# Altium footprint library TPS54360.PcbLib: 1 footprints
Each footprint in its own frame and in the unit in brackets; x right, y up, seen from the top. Pads: shape width x height; smd on the part's side, far side on the other; paste and mask are expansions set on the pad; w line width, h text height; cw(c..) or ccw(c..) is an arc to the next point about the centre after c.
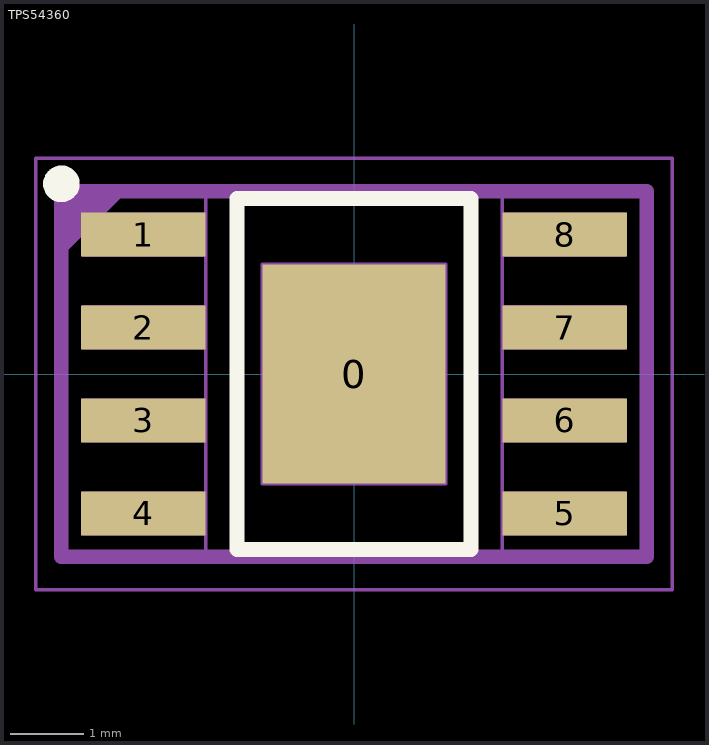
[diagram p0: the footprint, top view; thin cyan lines are the x and y axes]

## TPS54360 [mm]
pads (9):
  rect 2.5x3 smd paste+0: 0(0,0)
  rect 1.7x0.6 smd: 1(-2.88,1.905) 2(-2.88,0.635) 3(-2.88,-0.635) 4(-2.88,-1.905) 5(2.88,-1.905) 6(2.88,-0.635) 7(2.88,0.635) 8(2.88,1.905)
Top Overlay:
  circle w0.3: c-4,2.6 r0.1
  lines w0.2: -1.6,-2.4 -1.6,2.4 1.6,2.4 1.6,-2.4 -1.6,-2.4
Mechanical 6:
  lines w0.05: -4.35,-2.95 4.35,-2.95 4.35,2.95 -4.35,2.95 -4.35,-2.95
Mechanical 8:
  lines w0.05: -2.025,-2.185 -3.7,-2.185 -3.7,-1.63 -2.025,-1.63 ; -2.025,-0.91 -3.7,-0.91 -3.7,-0.36 -2.025,-0.36 ; -2.025,0.36 -3.7,0.36 -3.7,0.915 -2.025,0.915 ; -2.025,1.625 -3.7,1.625 -3.7,2.18 -2.025,2.18 ; 2.025,-2.185 3.7,-2.185 3.7,-1.63 2.025,-1.63 ; 2.025,-0.91 3.7,-0.91 3.7,-0.36 2.025,-0.36 ; 2.025,0.36 3.7,0.36 3.7,0.915 2.025,0.915 ; 2.025,1.625 3.7,1.625 3.7,2.18 2.025,2.18 ; -2.025,-2.425 2.025,-2.425 2.025,2.425 -2.025,2.425 -2.025,-2.425 ; -1.25,-1.5 -1.25,1.5 1.25,1.5 1.25,-1.5 -1.25,-1.5
  text "Термопад!" at -0.975,-0.075 h0.5
Mechanical 15:
  lines w0.2: -4,1.739 -3.239,2.5 ; -3.985,1.982 -3.484,2.482 -3.9,2.066 ; -3.93,2.265 -3.733,2.461 ; -4,-2.5 4,-2.5 4,2.5 -4,2.5 -4,-2.5
3D body "SOIC-8.STEP": height 1.75, standoff 0, extent -3.05,-2.45 2.95,2.45